# Altium integrated library S7A25025-150.000-P-X-R.IntLib: 1 symbol
Pins are listed as number, name and electrical type; pins without a type are passive.

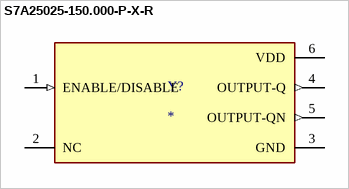
[diagram p0: symbol S7A25025-150.000-P-X-R]

## S7A25025-150.000-P-X-R
designator Y?
MP: S7A25025-150.000-P-X-R; Package: None; Price: None; Value: *; Availability: Unavailable
footprint OSC_S7A25025-150.000-P-X-R
pins: 1 ENABLE/DISABLE (in), 2 NC, 3 GND (power), 4 OUTPUT-Q (out), 5 OUTPUT-QN (out), 6 VDD (power)